# Altium schematic symbol library JFET_P_DSG.SchLib: 1 symbol
Pins are listed as number, name and electrical type; pins without a type are passive.

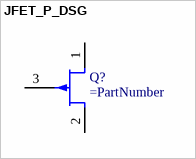
[diagram p0: symbol JFET_P_DSG]

## JFET_P_DSG
designator Q?
JFET P-Channel
pins: 1 D, 2 S, 3 G